# Altium footprint library 2.4G-ANT.PcbLib: 1 footprints
Each footprint in its own frame and in the unit in brackets; x right, y up, seen from the top. Pads: shape width x height; smd on the part's side, far side on the other; paste and mask are expansions set on the pad; w line width, h text height; cw(c..) or ccw(c..) is an arc to the next point about the centre after c.
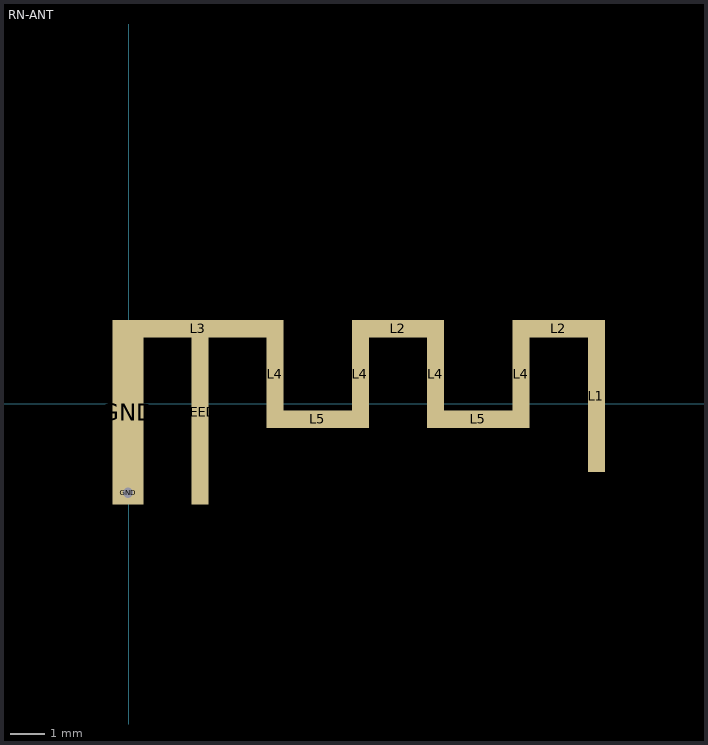
[diagram p0: the footprint, top view; thin cyan lines are the x and y axes]

## RN-ANT [mm]
pads (13):
  rect 0.5x5.4 smd paste-2539.97 mask+0: FEED(2.075,-0.25)
  round 0.5 hole 0.3: GND(-0.025,-2.6)
  rect 0.9x5.4 smd paste-2539.97 mask+0: GND(-0.025,-0.25)
  rect 0.5x4.44 smd paste-2539.97 mask+0: L1(13.675,0.225)
  rect 2.7x0.5 smd paste-2539.97 mask+0: L2(7.875,2.2) L2(12.575,2.2)
  rect 5x0.5 smd paste-2539.97 mask+0: L3(2.025,2.2)
  rect 0.5x3.14 smd paste-2539.97 mask+0: L4(4.275,0.875) L4(6.775,0.875) L4(8.975,0.875) L4(11.475,0.875)
  rect 3x0.5 smd paste-2539.97 mask+0: L5(5.525,-0.45) L5(10.225,-0.45)